# Altium footprint library PcbLib1-GATE-DRV-SMPS-1.PcbLib: 45 footprints (part 3 of 3)
Each footprint in its own frame and in the unit in brackets; x right, y up, seen from the top. Pads: shape width x height; smd on the part's side, far side on the other; paste and mask are expansions set on the pad; w line width, h text height; cw(c..) or ccw(c..) is an arc to the next point about the centre after c.
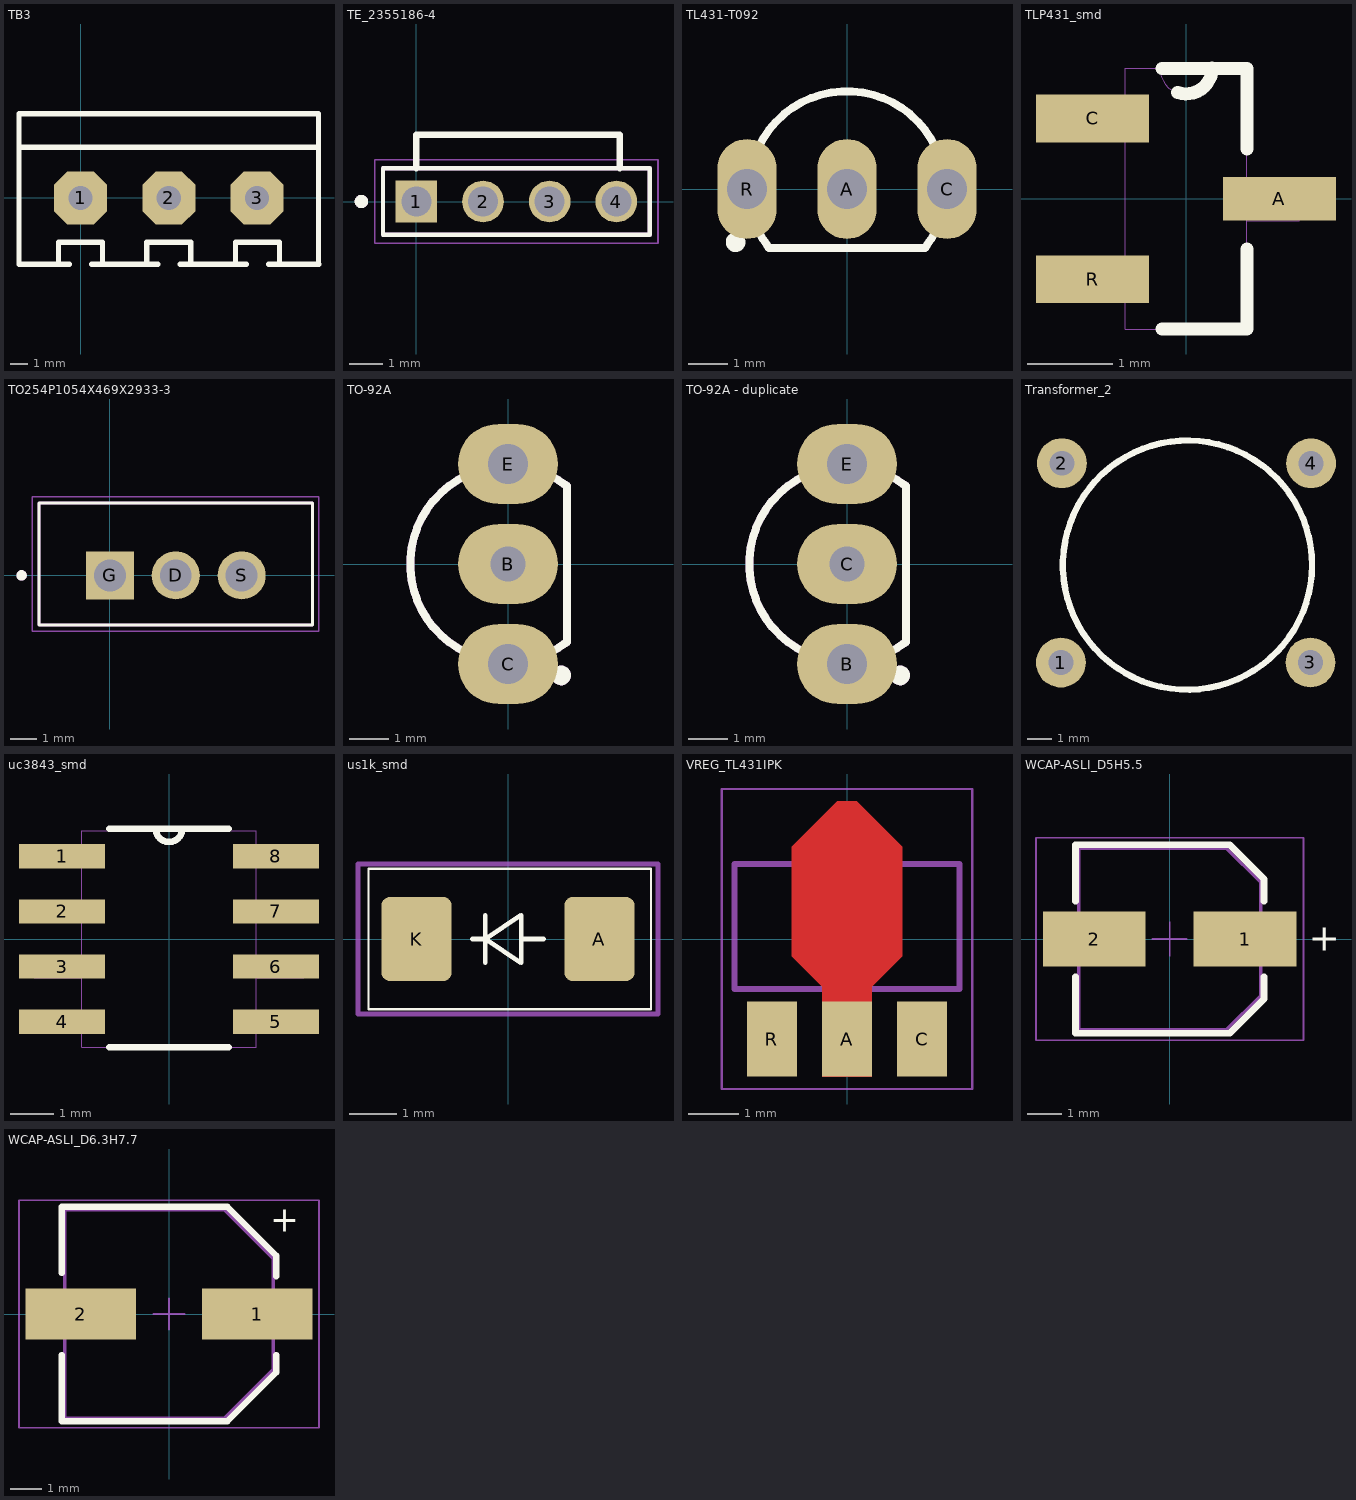
[diagram p2: the footprints below, top view; thin cyan lines are the x and y axes]

## TB3 [mil] "Terminal Block Straight"
pads (3):
  oct 120x120 hole 55.12: 1(0,0) 2(200,0) 3(400,0)
Top Overlay:
  lines w12: -139.37,115 539.37,115 ; -50,-150 -50,-100 50,-100 50,-150 ; -25,-150 -139.37,-150 -139.37,75 -139.37,190.75 539.37,190.75 539.37,75 539.37,-150 ; 25,-150 175,-150 ; 150,-150 150,-100 250,-100 250,-150 ; 226,-150 376,-150 ; 351,-150 351,-100 451,-100 451,-150 ; 426,-150 540.35,-150

## TE_2355186-4 [mm]
pads (4):
  rect 1.25x1.25 hole 0.9: 1(0,0)
  round 1.25 hole 0.9: 2(2,0) 3(4,0) 4(6,0)
Top Overlay:
  circle w0.2: c-1.65,0 r0.1
  lines w0.127: -1,-1 7,-1 7,1 -1,1 -1,-1
  lines w0.2: 0,1 0,2 6.1,2 6.1,1
Mechanical 13:
  circle w0.2: c-1.65,0 r0.1
  lines w0.127: -1,-1 7,-1 ; -1,-1 7,-1 ; -1,-1 -1,1 7,1 7,-1
Mechanical 15:
  lines w0.05: -1.25,-1.25 7.25,-1.25 7.25,1.25 -1.25,1.25 -1.25,-1.25
Mechanical 29:
  circle w0.2: c-1.65,0 r0.1
  lines w0.127: -1,-1 -1,1 7,1 7,-1 -1,-1
  text "'.Designator''" at -1,-2 h0.7
3D body "2355186-4--3DModel-STEP-1.STEP": height 4, standoff -4.3, extent -1,-1 7,1

## TL431-T092 [mil]
height 210.24
pads (3):
  oval 59.06x100 hole 40: A(0,0) C(100,0) R(-100,0)
Top Overlay:
  circle w9.84: c-111.42,-53.15 r4.92
  lines w7.87: -77.95,-59.06 cw(c0,0) 77.95,-59.06 -77.95,-59.05
Mechanical 13:
  lines w3.94: -77.95,-59.06 cw(c0,0) 77.95,-59.06 -77.95,-59.05
3D body "to92-3_p2-54_l5_w3-7_h8.stp": height 315.75, standoff -157.48, extent -109.84,-47.24 109.85,98.43

## TLP431_smd [mil]
pads (3):
  rect 52x20 smd: A(43,0)
  rect 52x22 smd: C(-43,37) R(-43,-37)
Top Overlay:
  lines w6: -11,-60 28,-60 28,-23 ; -11,60 12,60 28,60 28,23 ; -3.9,48.96 ccw(c0.15,60.1) 12,60.1
Mechanical 13:
  lines w0: -28,-47 -52,-47 -52,-28 -28,-28 ; -28,-47 -28,-28 ; -28,-47 -28,-60 28,-60 28,-10 ; -28,-28 -28,28 ; -28,28 -52,28 -52,47 -28,47 ; -28,28 -28,47 ; -28,47 -28,60 -12,60 ; -12,60 ccw(c0,60) 12,60 ; -12,60 12,60 ; 12,60 28,60 28,10 ; 28,-10 52,-10 52,10 28,10 ; 28,-10 28,10
3D body "step_temp.STEP": height 44.09, standoff 0, extent -46.65,-57.48 46.65,57.48
3D body "TL431CDBZR.STEP": height 44.09, standoff 0, extent -46.65,-57.48 46.65,57.48

## TO254P1054X469X2933-3 [mm]
pads (3):
  round 1.85 hole 1.23: D(2.54,0) S(5.08,0)
  rect 1.85x1.85 hole 1.23: G(0,0)
Top Overlay:
  circle w0.2: c-3.4,0 r0.1
  lines w0.127: -2.73,-1.91 7.81,-1.91 7.81,2.79 -2.73,2.79 -2.73,-1.91
Mechanical 13:
  circle w0.2: c-3.4,0 r0.1
  lines w0.127: -2.73,-1.91 -2.73,2.79 7.81,2.79 7.81,-1.91 -2.73,-1.91
Mechanical 15:
  lines w0.05: -2.98,-2.16 8.06,-2.16 8.06,3.04 -2.98,3.04 -2.98,-2.16
Mechanical 29:
  circle w0.2: c-3.4,0 r0.1
  lines w0.127: -2.73,-1.91 -2.73,2.79 7.81,2.79 7.81,-1.91 -2.73,-1.91
  text "'.Designator''" at -1.524,-3.175 h0.7
3D body "step_temp.STEP": height 16.68, standoff -14.81, extent -2.54,-3.089 7.62,3.816

## TO-92A [mil] "TO, Flat Index; 3 In-Line, Axial Leads; Body Dia. 4.5mm; Leads 0.51 x 0.48 mm (max)"
height 270.08
pads (3):
  oval 100x80 hole 35.43: B(0,0)
  oval 100x80 hole 40: C(0,-100) E(0,100)
Top Overlay:
  circle w9.84: c53.15,-111.42 r4.92
  lines w7.87: 59.06,-77.95 cw(c0,0) 59.06,77.95 59.05,-77.95
Mechanical 13:
  lines w3.94: 59.06,-77.95 cw(c0,0) 59.06,77.95 59.05,-77.95
Mechanical 15:
  lines w3.94: -19.68,0 19.68,0 ; 0,-19.68 0,19.69
Mechanical 29:
  circle w9.84: c53.15,-111.42 r4.92
  lines w7.87: 59.06,-77.95 cw(c0,0) 59.06,77.95 59.05,-77.95
  text "'.Designator''" at -125,-190 h27.56
3D body "to92-3_p2-54_l5_w3-7_h8.stp": height 315.75, standoff -157.48, extent -98.43,-109.84 47.24,109.85

## TO-92A - duplicate [mil] "TO, Flat Index; 3 In-Line, Axial Leads; Body Dia. 4.5mm; Leads 0.51 x 0.48 mm (max)"
height 270.08
pads (3):
  oval 100x80 hole 40: B(0,-100) E(0,100)
  oval 100x80 hole 35.43: C(0,0)
Top Overlay:
  circle w9.84: c53.15,-111.42 r4.92
  lines w7.87: 59.06,-77.95 cw(c0,0) 59.06,77.95 59.05,-77.95
Mechanical 13:
  lines w3.94: 59.06,-77.95 cw(c0,0) 59.06,77.95 59.05,-77.95
Mechanical 15:
  lines w3.94: -19.68,0 19.68,0 ; 0,-19.68 0,19.69
Mechanical 29:
  circle w9.84: c53.15,-111.42 r4.92
  lines w7.87: 59.06,-77.95 cw(c0,0) 59.06,77.95 59.05,-77.95
  text "'.Designator''" at -125,-190 h27.56
3D body "to92-3_p2-54_l5_w3-7_h8.stp": height 315.75, standoff -157.48, extent -98.43,-109.84 47.24,109.85

## Transformer_2 [mm]
pads (4):
  round 2 hole 1: 1(3.212,86.25) 2(3.25,94.25) 3(13.226,86.255) 4(13.249,94.247)
Top Overlay:
  circle w0.254: c8.288,90.163 r5
Mechanical 29:
  text "'.Designator''" at 4.288,89.663 h0.7
3D body: height 7, standoff 4, extent 3.231,85.256 13.231,95.256

## uc3843_smd [mil]
pads (8):
  rect 78x22 smd: 1(-97,75) 2(-97,25) 3(-97,-25) 4(-97,-75) 5(97,-75) 6(97,-25) 7(97,25) 8(97,75)
Top Overlay:
  lines w6: -54,-98 54,-98 ; -54,99.97 -12,99.97 ; 54,99.97 12,99.97 ; -12,99.97 ccw(c0,99.97) 12,99.97 ; -12,99.97 12,99.97
Mechanical 13:
  lines w0: -12,98 ccw(c0,98) 12,98 ; -12,98 12,98 ; -12,98 -79,98 -79,-98 79,-98 79,98 12,98 ; -122,-85 -122,-65 -79,-65 -79,-85 -122,-85 ; -122,-35 -122,-15 -79,-15 -79,-35 -122,-35 ; -122,15 -122,35 -79,35 -79,15 -122,15 ; -122,65 -122,85 -79,85 -79,65 -122,65 ; 79,-85 79,-65 122,-65 122,-85 79,-85 ; 79,-35 79,-15 122,-15 122,-35 79,-35 ; 79,15 79,35 122,35 122,15 79,15 ; 79,65 79,85 122,85 122,65 79,65
3D body "UC3843BD1G.STEP": height 68.9, standoff 0, extent -118.11,-96.46 118.11,96.46

## us1k_smd [mm]
pads (2):
  rrect25% 1.5x1.8 smd: A(1.95,0) K(-1.95,0)
Top Overlay:
  lines w0.05: -2.975,-1.5 -2.975,1.5 2.375,1.5 3.05,1.5 3.05,-1.5 2.375,-1.5 -2.975,-1.5
  lines w0.1: -0.762,0 -0.483,0 ; -0.483,-0.508 -0.483,0.508 ; 0.279,0 0.762,0 ; -0.483,0 0.279,0.508 0.279,-0.508 -0.483,0
Mechanical 15:
  lines w0.1: -3.2,-1.6 -3.2,1.6 3.2,1.6 3.2,-1.6 -3.2,-1.6
3D body "p25_SMA_DO-214AC.stp": height 2.17, standoff 0, extent -2.525,-1.35 2.525,1.35

## VREG_TL431IPK [mm]
pads (3):
  rect 1x1.5 smd paste-2 mask+0: A(0,-2)
  rect 1x1.5 smd: C(1.5,-2) R(-1.5,-2)
Top Layer:
  region: 1.1,1.85 1.1,-0.35 0.5,-0.95 0.5,-2.75 -0.5,-2.75 -0.5,-0.95 -1.1,-0.35 -1.1,1.85 -0.2,2.75 0.2,2.75
Top Paste:
  region: 1.1,1.85 1.1,-0.35 0.5,-0.95 0.5,-2.75 -0.5,-2.75 -0.5,-0.95 -1.1,-0.35 -1.1,1.85 -0.2,2.75 0.2,2.75
Top Solder:
  region: 1.2,1.85 1.2,-0.35 0.6,-0.95 0.6,-2.85 -0.6,-2.85 -0.6,-0.95 -1.2,-0.35 -1.2,1.85 -0.2,2.85 0.2,2.85
Mechanical 13:
  lines w0.127: -2.25,-1 2.25,-1 2.25,1.5 -2.25,1.5 -2.25,-1
Mechanical 15:
  lines w0.05: -2.5,-3 2.5,-3 2.5,3 -2.5,3 -2.5,-3
3D body "TL431IPK.STEP": height 1.6, standoff 0, extent -2.25,-2.555 2.25,1.539

## WCAP-ASLI_D5H5.5 [mm] "Aluminium Electrolytic V-Chip SMT Capacitors, 5x5.5mm"
height 5.5
pads (2):
  rect 3x1.6 smd: 1(2.2,0) 2(-2.2,0)
Top Overlay:
  lines w0.2: -2.75,-1.1 -2.75,-2.75 1.75,-2.75 2.75,-1.75 2.75,-1.1 ; -2.75,1.1 -2.75,2.75 1.75,2.75 2.75,1.75 2.75,1.1
  text "+" at 4.05,-0.35 h0.8
Top Courtyard:
  lines w0.05: -0.5,0 0.5,0 ; 0,-0.5 0,0.5 ; -3.9,-2.95 3.9,-2.95 3.9,2.95 -3.9,2.95 -3.9,-2.95
Top 3D Body:
  lines w0.1: -2.65,-2.65 -2.65,2.65 1.65,2.65 2.65,1.65 2.65,-1.65 1.65,-2.65 -2.65,-2.65
Top Component Outline:
  lines w0.1: -2.65,-2.65 -2.65,2.65 1.65,2.65 2.65,1.65 2.65,-1.65 1.65,-2.65 -2.65,-2.65
3D body "5x5.5x1.4.stp": height 5.5, standoff 0, extent -3,-2.65 3,2.65

## WCAP-ASLI_D6.3H7.7 [mm] "Aluminium Electrolytic V-Chip SMT Capacitors, 6.3x7.7mm"
height 7.7
pads (2):
  rect 3.5x1.6 smd: 1(2.8,0) 2(-2.8,0)
Top Overlay:
  lines w0.2: -3.4,-1.3 -3.4,-3.4 1.85,-3.4 3.4,-1.85 3.4,-1.3 ; -3.4,1.3 -3.4,3.4 1.85,3.4 3.4,1.85 3.4,1.2
  text "+" at 3.2,2.6 h0.8
Top Courtyard:
  lines w0.05: -0.5,0 0.5,0 ; 0,-0.5 0,0.5 ; -4.75,-3.6 4.75,-3.6 4.75,3.6 -4.75,3.6 -4.75,-3.6
Top 3D Body:
  lines w0.1: -3.3,-3.3 -3.3,3.3 1.75,3.3 3.3,1.75 3.3,-1.75 1.75,-3.3 -3.3,-3.3
Top Component Outline:
  lines w0.1: -3.3,-3.3 -3.3,3.3 1.75,3.3 3.3,1.75 3.3,-1.75 1.75,-3.3 -3.3,-3.3
3D body "6.3x7.7x2.2.stp": height 7.7, standoff 0, extent -3.65,-3.3 3.65,3.3